# Altium footprint library VLS3012HBX-2R2M.PcbLib: 3 footprints
Each footprint in its own frame and in the unit in brackets; x right, y up, seen from the top. Pads: shape width x height; smd on the part's side, far side on the other; paste and mask are expansions set on the pad; w line width, h text height; cw(c..) or ccw(c..) is an arc to the next point about the centre after c.
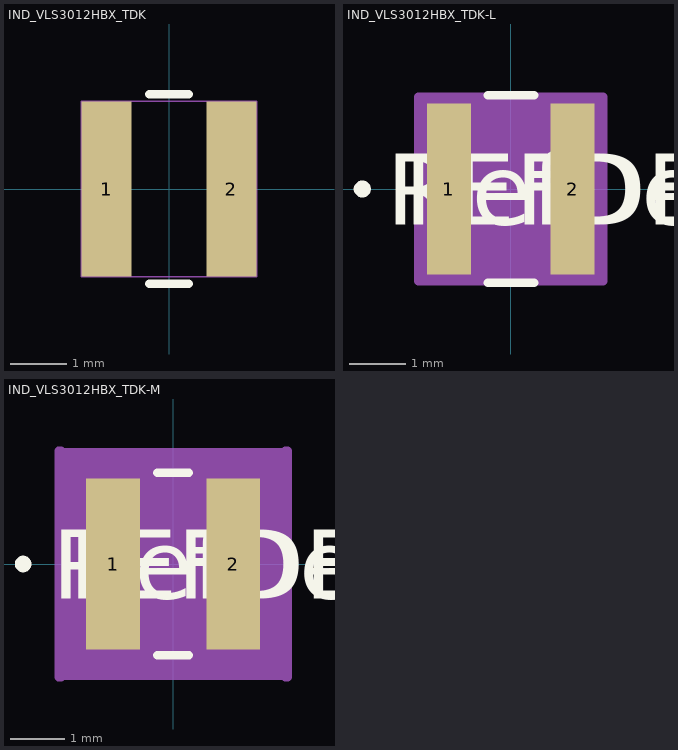
[diagram p0: the footprints below, top view; thin cyan lines are the x and y axes]

## IND_VLS3012HBX_TDK [mil]
pads (2):
  rect 35x122 smd paste+0 mask+0: 1(-43.5,0) 2(43.5,0)
Top Overlay:
  lines w6: -13.89,-66 13.89,-66 ; -13.89,66 13.89,66
Mechanical 13:
  lines w1: -61,-61 -61,61 61,61 61,-61 -61,-61
  text ".Designator" at 30,75 h23.62
3D body "IND_VLS3012HBX_TDK.step": height 47.09, standoff 0, extent -60.98,-60.98 60.98,60.98

## IND_VLS3012HBX_TDK-L [mil]
pads (2):
  rect 31x120 smd paste+0 mask+0: 1(-43.5,0) 2(43.5,0)
Top Overlay:
  circle w6: c-104.5,0 r3
  lines w6: -16.35,-66 16.35,-66 ; -16.35,66 16.35,66
  text "RefDes" at -75,-25 h50
  text "REFDES" at -87.5,-25 h50
Mechanical 13:
  circle w0: c0,0 r3
  lines w1: -61,-61 -61,61 61,61 61,-61 -61,-61
  text "RefDes2" at -87.5,-25 h50
Mechanical 15:
  region: -65,-64 -65,64 -65,65 65,65 65,64 65,-64 65,-65 -65,-65
  lines w6: -65,-65 65,-65 65,-64 65,64 65,65 -65,65 -65,64 -65,-64 -65,-65
3D body "IND_VLS3012HBX_TDK.step": height 47.09, standoff 0, extent -60.98,-60.98 60.98,60.98

## IND_VLS3012HBX_TDK-M [mil]
pads (2):
  rect 39x124 smd paste+0 mask+0: 1(-43.5,0) 2(43.5,0)
Top Overlay:
  circle w6: c-108.5,0 r3
  lines w6: -11.53,-66 11.53,-66 ; -11.53,66 11.53,66
  text "RefDes" at -75,-25 h50
  text "REFDES" at -87.5,-25 h50
Mechanical 13:
  circle w0: c0,0 r3
  lines w1: -61,-61 -61,61 61,61 61,-61 -61,-61
  text "RefDes2" at -87.5,-25 h50
Mechanical 15:
  region: -81,-82 -83,-82 -83,82 -81,82 -81,81 81,81 81,82 83,82 83,-82 81,-82 81,-81 -81,-81
  lines w6: -83,-82 -81,-82 -81,-81 81,-81 81,-82 83,-82 83,82 81,82 81,81 -81,81 -81,82 -83,82 -83,-82
3D body "IND_VLS3012HBX_TDK.step": height 47.09, standoff 0, extent -60.98,-60.98 60.98,60.98